# Altium footprint library HAB_Lib.PcbLib: 104 footprints (part 6 of 7)
Each footprint in its own frame and in the unit in brackets; x right, y up, seen from the top. Pads: shape width x height; smd on the part's side, far side on the other; paste and mask are expansions set on the pad; w line width, h text height; cw(c..) or ccw(c..) is an arc to the next point about the centre after c.
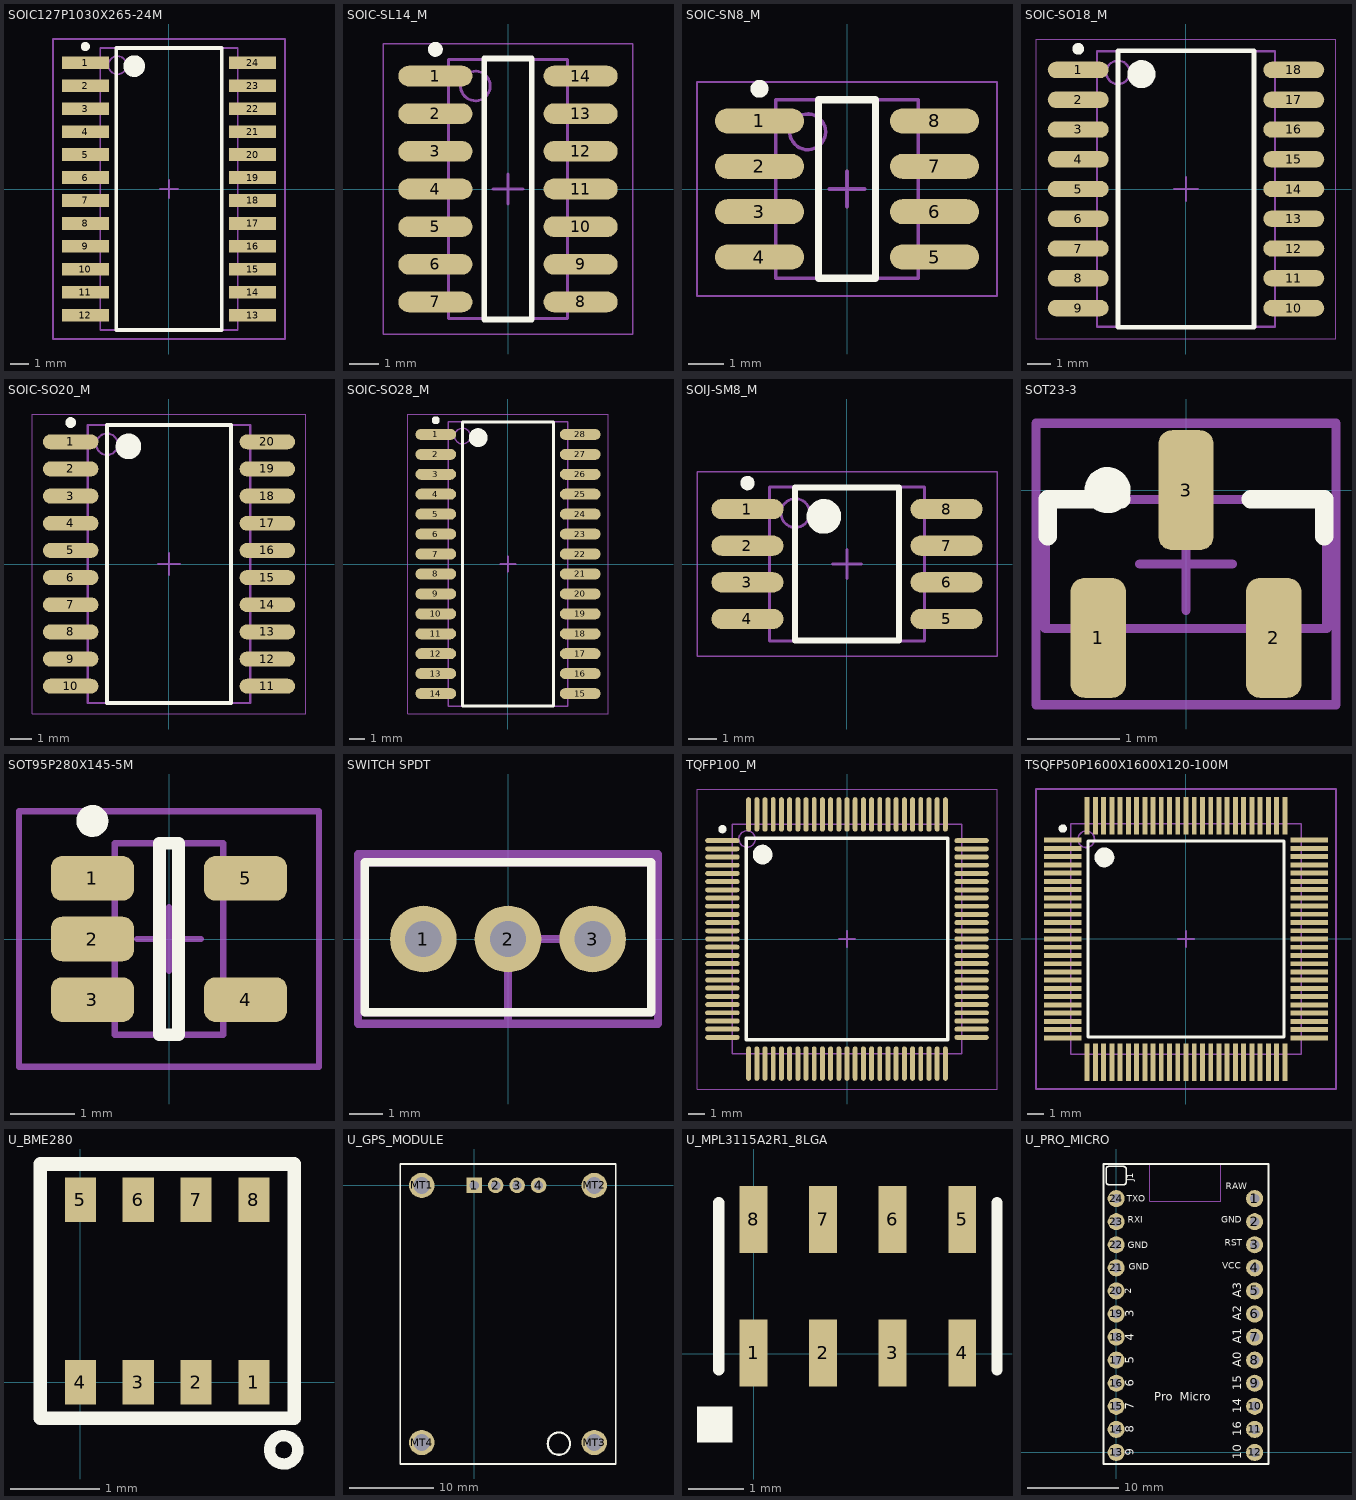
[diagram p5: the footprints below, top view; thin cyan lines are the x and y axes]

## SOIC127P1030X265-24M [mm] "SOIC, 24-Leads, Body 15.6x7.6mm (max), Pitch 1.27mm, IPC Low Density"
height 2.65
pads (24):
  rect 2.6x0.7 smd: 1(-4.625,6.985) 2(-4.625,5.715) 3(-4.625,4.445) 4(-4.625,3.175) 5(-4.625,1.905) 6(-4.625,0.635) 7(-4.625,-0.635) 8(-4.625,-1.905) 9(-4.625,-3.175) 10(-4.625,-4.445) 11(-4.625,-5.715) 12(-4.625,-6.985) 13(4.625,-6.985) 14(4.625,-5.715) 15(4.625,-4.445) 16(4.625,-3.175) 17(4.625,-1.905) 18(4.625,-0.635) 19(4.625,0.635) 20(4.625,1.905) 21(4.625,3.175) 22(4.625,4.445) 23(4.625,5.715) 24(4.625,6.985)
Top Overlay:
  circle w0.6: c-1.925,6.8 r0.3
  circle w0.25: c-4.625,7.885 r0.125
  lines w0.2: -2.925,-7.8 2.925,-7.8 2.925,7.8 -2.925,7.8 -2.925,-7.8
Mechanical 13:
  circle w0.1: c-2.85,6.85 r0.5
  lines w0.1: -3.8,-7.8 3.8,-7.8 3.8,7.8 -3.8,7.8 -3.8,-7.8
Mechanical 15:
  lines w0.1: -0.5,0 0.5,0 ; 0,-0.5 0,0.5 ; -6.425,-8.3 6.425,-8.3 6.425,8.3 -6.425,8.3 -6.425,-8.3
3D body: height 2.65, standoff 0.3, extent -3.8,-7.8 3.8,7.8

## SOIC-SL14_M [mm] "SOIC, 14-Leads, Body 8.7x3.9mm, Pitch 1.27mm, IPC Low Density"
height 1.75
pads (14):
  oval 2.5x0.7 smd: 1(-2.45,3.81) 2(-2.45,2.54) 3(-2.45,1.27) 4(-2.45,0) 5(-2.45,-1.27) 6(-2.45,-2.54) 7(-2.45,-3.81) 8(2.45,-3.81) 9(2.45,-2.54) 10(2.45,-1.27) 11(2.45,0) 12(2.45,1.27) 13(2.45,2.54) 14(2.45,3.81)
Top Overlay:
  circle w0.25: c-2.45,4.71 r0.125
  lines w0.2: -0.8,-4.4 -0.8,4.4 0.8,4.4 0.8,-4.4 -0.8,-4.4
Mechanical 13:
  circle w0.1: c-1.1,3.475 r0.5
  lines w0.1: -2,-4.375 -2,4.375 2,4.375 2,-4.375 -2,-4.375
Mechanical 15:
  lines w0.05: -4.2,-4.9 -4.2,4.9 4.2,4.9 4.2,-4.9 -4.2,-4.9
  lines w0.1: -0.5,0 0.5,0 ; 0,-0.5 0,0.5
3D body: height 1.75, standoff 0.1, extent -2,-4.375 2,4.375

## SOIC-SN8_M [mm] "SOIC, 8-Leads, Body 4.9x3.8mm, Pitch 1.27mm, IPC Low Density"
height 1.75
pads (8):
  oval 2.5x0.7 smd: 1(-2.45,1.905) 2(-2.45,0.635) 3(-2.45,-0.635) 4(-2.45,-1.905) 5(2.45,-1.905) 6(2.45,-0.635) 7(2.45,0.635) 8(2.45,1.905)
Top Overlay:
  circle w0.25: c-2.45,2.805 r0.125
  lines w0.2: -0.8,-2.5 0.8,-2.5 0.8,2.5 -0.8,2.5 -0.8,-2.5
Mechanical 13:
  circle w0.1: c-1.1,1.6 r0.5
  lines w0.1: -2,-2.5 2,-2.5 2,2.5 -2,2.5 -2,-2.5
Mechanical 15:
  lines w0.05: -4.2,-3 4.2,-3 4.2,3 -4.2,3 -4.2,-3
  lines w0.1: -0.5,0 0.5,0 ; 0,-0.5 0,0.5
3D body: height 1.75, standoff 0.1, extent -2,-2.5 2,2.5

## SOIC-SO18_M [mm] "SOIC, 18-Leads, Body 11.5x7.5mm, Pitch 1.27mm, IPC Low Density"
height 2.65
pads (18):
  oval 2.6x0.7 smd: 1(-4.6,5.08) 2(-4.6,3.81) 3(-4.6,2.54) 4(-4.6,1.27) 5(-4.6,0) 6(-4.6,-1.27) 7(-4.6,-2.54) 8(-4.6,-3.81) 9(-4.6,-5.08) 10(4.6,-5.08) 11(4.6,-3.81) 12(4.6,-2.54) 13(4.6,-1.27) 14(4.6,0) 15(4.6,1.27) 16(4.6,2.54) 17(4.6,3.81) 18(4.6,5.08)
Top Overlay:
  circle w0.25: c-4.6,5.98 r0.125
  circle w0.6: c-1.9,4.9 r0.3
  lines w0.2: -2.9,-5.9 -2.9,5.9 2.9,5.9 2.9,-5.9 -2.9,-5.9
Mechanical 13:
  circle w0.1: c-2.9,4.975 r0.5
  lines w0.1: -3.8,-5.875 -3.8,5.875 3.8,5.875 3.8,-5.875 -3.8,-5.875
Mechanical 15:
  lines w0.05: -6.4,-6.4 -6.4,6.4 6.4,6.4 6.4,-6.4 -6.4,-6.4
  lines w0.1: -0.5,0 0.5,0 ; 0,-0.5 0,0.5
3D body: height 2.65, standoff 0.1, extent -3.8,-5.875 3.8,5.875

## SOIC-SO20_M [mm] "SOIC, 20-Leads, Body 12.8x7.5mm, Pitch 1.27mm, IPC Low Density"
height 2.65
pads (20):
  oval 2.6x0.7 smd: 1(-4.6,5.715) 2(-4.6,4.445) 3(-4.6,3.175) 4(-4.6,1.905) 5(-4.6,0.635) 6(-4.6,-0.635) 7(-4.6,-1.905) 8(-4.6,-3.175) 9(-4.6,-4.445) 10(-4.6,-5.715) 11(4.6,-5.715) 12(4.6,-4.445) 13(4.6,-3.175) 14(4.6,-1.905) 15(4.6,-0.635) 16(4.6,0.635) 17(4.6,1.905) 18(4.6,3.175) 19(4.6,4.445) 20(4.6,5.715)
Top Overlay:
  circle w0.6: c-1.9,5.5 r0.3
  circle w0.25: c-4.6,6.615 r0.125
  lines w0.2: -2.9,-6.5 2.9,-6.5 2.9,6.5 -2.9,6.5 -2.9,-6.5
Mechanical 13:
  circle w0.1: c-2.9,5.6 r0.5
  lines w0.1: -3.8,-6.5 3.8,-6.5 3.8,6.5 -3.8,6.5 -3.8,-6.5
Mechanical 15:
  lines w0.05: -6.4,-7 6.4,-7 6.4,7 -6.4,7 -6.4,-7
  lines w0.1: -0.5,0 0.5,0 ; 0,-0.5 0,0.5
3D body: height 2.65, standoff 0.1, extent -3.8,-6.5 3.8,6.5

## SOIC-SO28_M [mm] "SOIC, 28-Leads, Body 17.9x7.5mm, Pitch 1.27mm, IPC Low Density"
height 2.65
pads (28):
  oval 2.6x0.7 smd: 1(-4.6,8.255) 2(-4.6,6.985) 3(-4.6,5.715) 4(-4.6,4.445) 5(-4.6,3.175) 6(-4.6,1.905) 7(-4.6,0.635) 8(-4.6,-0.635) 9(-4.6,-1.905) 10(-4.6,-3.175) 11(-4.6,-4.445) 12(-4.6,-5.715) 13(-4.6,-6.985) 14(-4.6,-8.255) 15(4.6,-8.255) 16(4.6,-6.985) 17(4.6,-5.715) 18(4.6,-4.445) 19(4.6,-3.175) 20(4.6,-1.905) 21(4.6,-0.635) 22(4.6,0.635) 23(4.6,1.905) 24(4.6,3.175) 25(4.6,4.445) 26(4.6,5.715) 27(4.6,6.985) 28(4.6,8.255)
Top Overlay:
  circle w0.6: c-1.9,8.05 r0.3
  circle w0.25: c-4.6,9.155 r0.125
  lines w0.2: -2.9,-9.05 2.9,-9.05 2.9,9.05 -2.9,9.05 -2.9,-9.05
Mechanical 13:
  circle w0.1: c-2.9,8.15 r0.5
  lines w0.1: -3.8,-9.05 3.8,-9.05 3.8,9.05 -3.8,9.05 -3.8,-9.05
Mechanical 15:
  lines w0.05: -6.4,-9.55 6.4,-9.55 6.4,9.55 -6.4,9.55 -6.4,-9.55
  lines w0.1: -0.5,0 0.5,0 ; 0,-0.5 0,0.5
3D body: height 2.65, standoff 0.1, extent -3.8,-9.05 3.8,9.05

## SOIJ-SM8_M [mm] "SOP, 8-Leads, Body 5.2x5.2mm, Pitch 1.27mm, IPC Low Density"
height 2.04
pads (8):
  oval 2.5x0.7 smd: 1(-3.45,1.905) 2(-3.45,0.635) 3(-3.45,-0.635) 4(-3.45,-1.905) 5(3.45,-1.905) 6(3.45,-0.635) 7(3.45,0.635) 8(3.45,1.905)
Top Overlay:
  circle w0.6: c-0.8,1.65 r0.3
  circle w0.25: c-3.45,2.805 r0.125
  lines w0.2: -1.8,-2.65 1.8,-2.65 1.8,2.65 -1.8,2.65 -1.8,-2.65
Mechanical 13:
  circle w0.1: c-1.79,1.765 r0.5
  lines w0.1: -2.69,-2.665 2.69,-2.665 2.69,2.665 -2.69,2.665 -2.69,-2.665
Mechanical 15:
  lines w0.05: -5.2,-3.2 5.2,-3.2 5.2,3.2 -5.2,3.2 -5.2,-3.2
  lines w0.1: -0.5,0 0.5,0 ; 0,-0.5 0,0.5
3D body: height 2.04, standoff 0.05, extent -2.69,-2.665 2.69,2.665

## SOT23-3 [mm]
height 1.1
pads (3):
  rrect50% 0.6x1.3 smd: 1(-0.95,-1.6) 2(0.95,-1.6) 3(0,0)
Top Overlay:
  circle w0.25: c-0.85,0 r0.125
  lines w0.2: -1.5,-0.5 -1.5,-0.1 -0.7,-0.1 ; 0.7,-0.1 1.5,-0.1 1.5,-0.5
Mechanical 13:
  lines w0.1: -1.525,-1.5 1.525,-1.5 1.525,-0.1 -1.525,-0.1 -1.525,-1.5
Mechanical 15:
  lines w0.1: -0.5,-0.8 0.5,-0.8 ; 0,-1.3 0,-0.3 ; -1.625,-2.325 1.625,-2.325 1.625,0.725 -1.625,0.725 -1.625,-2.325
3D body: height 1.1, standoff 0.01, extent -1.525,-1.5 1.525,-0.1

## SOT95P280X145-5M [mm] "SOT23, 5-Leads, Body 3.0x3.0mm (max), Pitch 0.95mm, IPC Low Density"
height 1.45
pads (5):
  rrect50% 1.3x0.7 smd: 1(-1.2,0.95) 2(-1.2,0) 3(-1.2,-0.95) 4(1.2,-0.95) 5(1.2,0.95)
Top Overlay:
  circle w0.25: c-1.2,1.85 r0.125
  lines w0.2: -0.15,-1.5 -0.15,1.5 0.15,1.5 0.15,-1.5 -0.15,-1.5
Mechanical 13:
  lines w0.1: -0.85,-1.5 0.85,-1.5 0.85,1.5 -0.85,1.5 -0.85,-1.5
Mechanical 15:
  lines w0.1: -0.5,0 0.5,0 ; 0,-0.5 0,0.5 ; -2.35,-2 2.35,-2 2.35,2 -2.35,2 -2.35,-2
3D body: height 1.45, standoff 0.05, extent -0.85,-1.5 0.85,1.5

## SWITCH SPDT [mm] "SWITCH TOGGLE SPDT 3A PC MNT 5PC"
height 15
pads (3):
  round 2 hole 1.09: 1(-2.54,0) 2(0,0) 3(2.54,0)
Top Overlay:
  lines w0.254: -4.3,-2.2 4.3,-2.2 4.3,2.3 -4.1,2.3 -4.3,2.3 -4.3,-2.2
Mechanical 13:
  lines w0.254: -4.3,-2.2 4.3,-2.2 4.3,2.3 -4.3,2.3 -4.3,-2.2
Mechanical 15:
  lines w0.254: 0,-2.54 0,0 2.54,0 ; -4.5,-2.54 4.5,-2.54 4.5,2.54 -4.5,2.54 -4.5,-2.54

## TQFP100_M [mm] "Thin QFP, 100-Leads, Body 14x14mm, Pitch 0.5mm, IPC Low Density"
height 1.6
pads (100):
  oval 2.1x0.3 smd: 1(-7.6,6) 2(-7.6,5.5) 3(-7.6,5) 4(-7.6,4.5) 5(-7.6,4) 6(-7.6,3.5) 7(-7.6,3) 8(-7.6,2.5) 9(-7.6,2) 10(-7.6,1.5) 11(-7.6,1) 12(-7.6,0.5) 13(-7.6,0) 14(-7.6,-0.5) 15(-7.6,-1) 16(-7.6,-1.5) 17(-7.6,-2) 18(-7.6,-2.5) 19(-7.6,-3) 20(-7.6,-3.5) 21(-7.6,-4) 22(-7.6,-4.5) 23(-7.6,-5) 24(-7.6,-5.5) 25(-7.6,-6) 51(7.6,-6) 52(7.6,-5.5) 53(7.6,-5) 54(7.6,-4.5) 55(7.6,-4) 56(7.6,-3.5) 57(7.6,-3) 58(7.6,-2.5) 59(7.6,-2) 60(7.6,-1.5) 61(7.6,-1) 62(7.6,-0.5) 63(7.6,0) 64(7.6,0.5) 65(7.6,1) 66(7.6,1.5) 67(7.6,2) 68(7.6,2.5) 69(7.6,3) 70(7.6,3.5) 71(7.6,4) 72(7.6,4.5) 73(7.6,5) 74(7.6,5.5) 75(7.6,6)
  oval 0.3x2.1 smd: 26(-6,-7.6) 27(-5.5,-7.6) 28(-5,-7.6) 29(-4.5,-7.6) 30(-4,-7.6) 31(-3.5,-7.6) 32(-3,-7.6) 33(-2.5,-7.6) 34(-2,-7.6) 35(-1.5,-7.6) 36(-1,-7.6) 37(-0.5,-7.6) 38(0,-7.6) 39(0.5,-7.6) 40(1,-7.6) 41(1.5,-7.6) 42(2,-7.6) 43(2.5,-7.6) 44(3,-7.6) 45(3.5,-7.6) 46(4,-7.6) 47(4.5,-7.6) 48(5,-7.6) 49(5.5,-7.6) 50(6,-7.6) 76(6,7.6) 77(5.5,7.6) 78(5,7.6) 79(4.5,7.6) 80(4,7.6) 81(3.5,7.6) 82(3,7.6) 83(2.5,7.6) 84(2,7.6) 85(1.5,7.6) 86(1,7.6) 87(0.5,7.6) 88(0,7.6) 89(-0.5,7.6) 90(-1,7.6) 91(-1.5,7.6) 92(-2,7.6) 93(-2.5,7.6) 94(-3,7.6) 95(-3.5,7.6) 96(-4,7.6) 97(-4.5,7.6) 98(-5,7.6) 99(-5.5,7.6) 100(-6,7.6)
Top Overlay:
  circle w0.25: c-7.6,6.7 r0.125
  circle w0.6: c-5.15,5.15 r0.3
  lines w0.2: -6.15,-6.15 -6.15,6.15 6.15,6.15 6.15,-6.15 -6.15,-6.15
Mechanical 13:
  circle w0.1: c-6.1,6.1 r0.5
  lines w0.1: -7,-7 -7,7 7,7 7,-7 -7,-7
Mechanical 15:
  lines w0.05: -9.15,-9.15 -9.15,9.15 9.15,9.15 9.15,-9.15 -9.15,-9.15
  lines w0.1: -0.5,0 0.5,0 ; 0,-0.5 0,0.5
3D body: height 1.6, standoff 0, extent -7,-7 7,7

## TSQFP50P1600X1600X120-100M [mm] "TSQFP, 100-Leads, Body 16.0x16.0mm (max), Pitch 0.50mm, IPC Low Density"
height 1.2
pads (100):
  rect 2.25x0.3 smd: 1(-7.475,6) 2(-7.475,5.5) 3(-7.475,5) 4(-7.475,4.5) 5(-7.475,4) 6(-7.475,3.5) 7(-7.475,3) 8(-7.475,2.5) 9(-7.475,2) 10(-7.475,1.5) 11(-7.475,1) 12(-7.475,0.5) 13(-7.475,0) 14(-7.475,-0.5) 15(-7.475,-1) 16(-7.475,-1.5) 17(-7.475,-2) 18(-7.475,-2.5) 19(-7.475,-3) 20(-7.475,-3.5) 21(-7.475,-4) 22(-7.475,-4.5) 23(-7.475,-5) 24(-7.475,-5.5) 25(-7.475,-6) 51(7.475,-6) 52(7.475,-5.5) 53(7.475,-5) 54(7.475,-4.5) 55(7.475,-4) 56(7.475,-3.5) 57(7.475,-3) 58(7.475,-2.5) 59(7.475,-2) 60(7.475,-1.5) 61(7.475,-1) 62(7.475,-0.5) 63(7.475,0) 64(7.475,0.5) 65(7.475,1) 66(7.475,1.5) 67(7.475,2) 68(7.475,2.5) 69(7.475,3) 70(7.475,3.5) 71(7.475,4) 72(7.475,4.5) 73(7.475,5) 74(7.475,5.5) 75(7.475,6)
  rect 0.3x2.25 smd: 26(-6,-7.475) 27(-5.5,-7.475) 28(-5,-7.475) 29(-4.5,-7.475) 30(-4,-7.475) 31(-3.5,-7.475) 32(-3,-7.475) 33(-2.5,-7.475) 34(-2,-7.475) 35(-1.5,-7.475) 36(-1,-7.475) 37(-0.5,-7.475) 38(0,-7.475) 39(0.5,-7.475) 40(1,-7.475) 41(1.5,-7.475) 42(2,-7.475) 43(2.5,-7.475) 44(3,-7.475) 45(3.5,-7.475) 46(4,-7.475) 47(4.5,-7.475) 48(5,-7.475) 49(5.5,-7.475) 50(6,-7.475) 76(6,7.475) 77(5.5,7.475) 78(5,7.475) 79(4.5,7.475) 80(4,7.475) 81(3.5,7.475) 82(3,7.475) 83(2.5,7.475) 84(2,7.475) 85(1.5,7.475) 86(1,7.475) 87(0.5,7.475) 88(0,7.475) 89(-0.5,7.475) 90(-1,7.475) 91(-1.5,7.475) 92(-2,7.475) 93(-2.5,7.475) 94(-3,7.475) 95(-3.5,7.475) 96(-4,7.475) 97(-4.5,7.475) 98(-5,7.475) 99(-5.5,7.475) 100(-6,7.475)
Top Overlay:
  circle w0.6: c-4.95,4.95 r0.3
  circle w0.25: c-7.475,6.7 r0.125
  lines w0.2: -5.95,-5.95 5.95,-5.95 5.95,5.95 -5.95,5.95 -5.95,-5.95
Mechanical 13:
  circle w0.1: c-6.05,6.05 r0.5
  lines w0.1: -7,-7 7,-7 7,7 -7,7 -7,-7
Mechanical 15:
  lines w0.1: -0.5,0 0.5,0 ; 0,-0.5 0,0.5 ; -9.1,-9.1 9.1,-9.1 9.1,9.1 -9.1,9.1 -9.1,-9.1
3D body: height 1.2, standoff 0.15, extent -7,-7 7,7

## U_BME280 [mm] "SENSOR PRESSURE HUMIDITY TEMP"
height 0.93
pads (8):
  rect 0.35x0.5 smd: 1(1.95,0) 2(1.3,0) 3(0.65,0) 4(0,0) 5(0,2.05) 6(0.65,2.05) 7(1.3,2.05) 8(1.95,2.05)
Top Overlay:
  circle w0.127: c2.286,-0.762 r0.159
  lines w0.152: -0.454,-0.404 -0.454,2.454 2.404,2.454 2.404,-0.404 -0.454,-0.404

## U_GPS_MODULE [mm]
height 2
pads (8):
  rect 1.85x1.85 hole 1.1: 1(0,0)
  round 1.85 hole 1.1: 2(2.54,0) 3(5.08,0) 4(7.62,0)
  round 3 hole 2: MT1(-6.223,0) MT2(14.224,0) MT3(14.224,-30.48) MT4(-6.223,-30.48)
Top Overlay:
  circle w0.254: c10.033,-30.607 r1.326
  lines w0.2: -8.763,-33.02 16.764,-33.02 16.764,2.54 -8.763,2.54 -8.763,-33.02

## U_MPL3115A2R1_8LGA [mil] "IC ALTIMETER I2C VERSION 8LGA"
height 48
pads (8):
  rect 19.69x47.24 smd: 1(0,0.52) 2(49.21,0.52) 3(98.43,0.52) 4(147.64,0.52) 5(147.64,95) 6(98.43,95) 7(49.21,95) 8(0,95)
Top Overlay:
  region: -15,-62.5 -15,-37.5 -40,-37.5 -40,-62.5
  lines w8: -24.61,-11.3 -24.61,106.82 ; 172.25,-11.3 172.25,106.82

## U_PRO_MICRO [mil]
pads (24):
  round 74 hole 40: 1(600,1100) 2(600,1000) 3(600,900) 4(600,800) 5(600,700) 6(600,600) 7(600,500) 8(600,400) 9(600,300) 10(600,200) 11(600,100) 12(600,0) 13(0,0) 14(0,100) 15(0,200) 16(0,300) 17(0,400) 18(0,500) 19(0,600) 20(0,700) 21(0,800) 22(0,900) 23(0,1000) 24(0,1100)
Top Overlay:
  lines w6: -43.31,1170.47 ccw(c-32.48,1171.45) -31.5,1160.63 31.5,1160.63 ccw(c32.48,1171.45) 43.31,1170.47 43.31,1229.53 ccw(c32.49,1228.56) 31.5,1239.37 -31.5,1239.37 ccw(c-32.48,1228.55) -43.31,1229.53 -43.31,1170.47
  lines w8: -55,-50 -55,1250 660,1250 660,-50 -55,-50
  text "Micro" at 275,210 h62
  text "RAW" at 475,1130 h49.6
  text "J1" at 85,1175 h49.6
  text "Pro" at 165,210 h62
  text "10" at 555,-30 h62
  text "16" at 555,70 h62
  text "14" at 555,170 h62
  text "15" at 555,270 h62
  text "A0" at 555,370 h62
  text "A1" at 555,470 h62
  text "A2" at 555,570 h62
  text "A3" at 555,670 h62
  text "VCC" at 460,785 h49.6
  text "RST" at 470,885 h49.6
  text "GND" at 455,985 h49.6
  text "TXO" at 45,1075 h49.6
  text "RXI" at 50,985 h49.6
  text "GND" at 50,875 h49.6
  text "GND" at 55,780 h49.6
  text "2" at 75.2,686.9 h49.6
  text "3" at 90,585 h62
  text "4" at 90,485 h62
  text "5" at 90,385 h62
  text "6" at 90,285 h62
  text "7" at 90,185 h62
  text "8" at 90,85 h62
  text "9" at 90,-15 h62
Mechanical 16:
  lines w5: 146.46,1250 146.46,1087.8 453.54,1087.8 453.54,1250